# Altium schematic symbol library supercap.SCHLIB: 895 symbols (part 2 of 5)
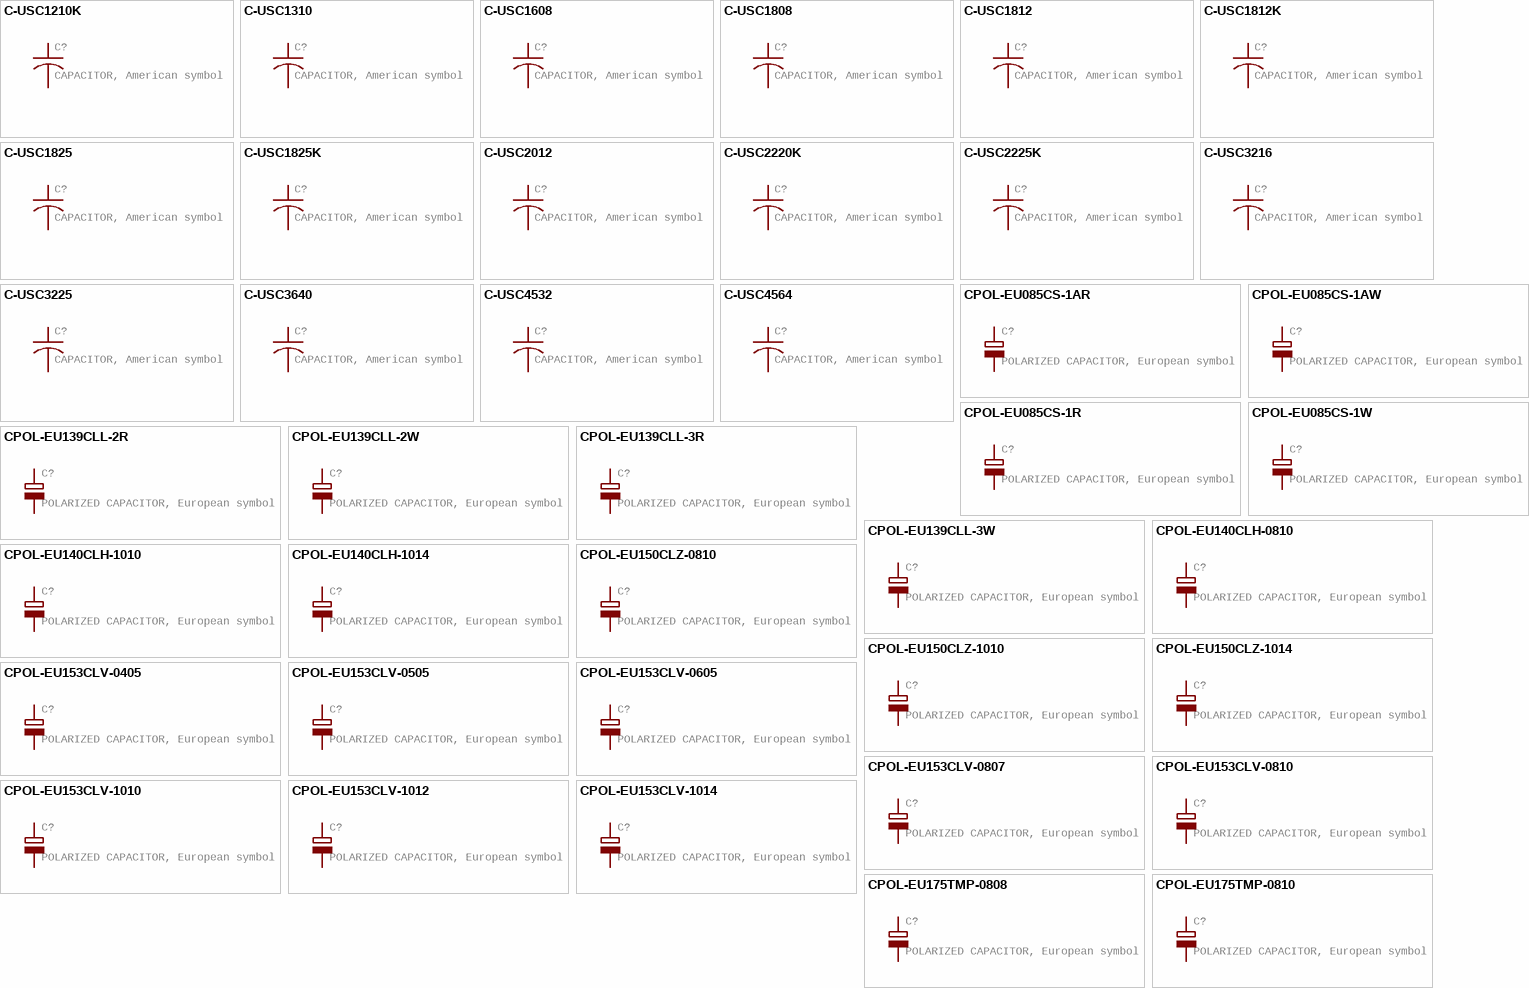
[diagram p23: symbols C-USC1210K to CPOL-EU175TMP-0810]

## CPOL-EU153CLV-0605
designator C?, comment POLARIZED CAPACITOR, European symbol
GateName_1: G$1; SymbolName_1: CPOL; DeviceName: 153CLV-0605; DeviceSetName: CPOL-EU; POPULARITY: 5; LibraryName: supercap; Package: 153CLV-0605; SPICEPREFIX: C
footprint 153CLV-0605
pins: +, -

## CPOL-EU153CLV-0807
designator C?, comment POLARIZED CAPACITOR, European symbol
GateName_1: G$1; SymbolName_1: CPOL; DeviceName: 153CLV-0807; DeviceSetName: CPOL-EU; POPULARITY: 0; LibraryName: supercap; Package: 153CLV-0807; SPICEPREFIX: C
footprint 153CLV-0807
pins: +, -

## CPOL-EU153CLV-0810
designator C?, comment POLARIZED CAPACITOR, European symbol
GateName_1: G$1; SymbolName_1: CPOL; DeviceName: 153CLV-0810; DeviceSetName: CPOL-EU; POPULARITY: 4; LibraryName: supercap; Package: 153CLV-0810; SPICEPREFIX: C
footprint 153CLV-0810
pins: +, -

## CPOL-EU153CLV-1010
designator C?, comment POLARIZED CAPACITOR, European symbol
GateName_1: G$1; SymbolName_1: CPOL; DeviceName: 153CLV-1010; DeviceSetName: CPOL-EU; POPULARITY: 0; LibraryName: supercap; Package: 153CLV-1010; SPICEPREFIX: C
footprint 153CLV-1010
pins: +, -

## CPOL-EU153CLV-1012
designator C?, comment POLARIZED CAPACITOR, European symbol
GateName_1: G$1; SymbolName_1: CPOL; DeviceName: 153CLV-1012; DeviceSetName: CPOL-EU; POPULARITY: 0; LibraryName: supercap; Package: 153CLV-1012; SPICEPREFIX: C
footprint 153CLV-1012
pins: +, -

## CPOL-EU153CLV-1014
designator C?, comment POLARIZED CAPACITOR, European symbol
GateName_1: G$1; SymbolName_1: CPOL; DeviceName: 153CLV-1014; DeviceSetName: CPOL-EU; POPULARITY: 0; LibraryName: supercap; Package: 153CLV-1014; SPICEPREFIX: C
footprint 153CLV-1014
pins: +, -

## CPOL-EU175TMP-0808
designator C?, comment POLARIZED CAPACITOR, European symbol
GateName_1: G$1; SymbolName_1: CPOL; DeviceName: 175TMP-0808; DeviceSetName: CPOL-EU; POPULARITY: 0; LibraryName: supercap; Package: 175TMP-0808; SPICEPREFIX: C
footprint 175TMP-0808
pins: +, -

## CPOL-EU175TMP-0810
designator C?, comment POLARIZED CAPACITOR, European symbol
GateName_1: G$1; SymbolName_1: CPOL; DeviceName: 175TMP-0810; DeviceSetName: CPOL-EU; POPULARITY: 0; LibraryName: supercap; Package: 175TMP-0810; SPICEPREFIX: C
footprint 175TMP-0810
pins: +, -

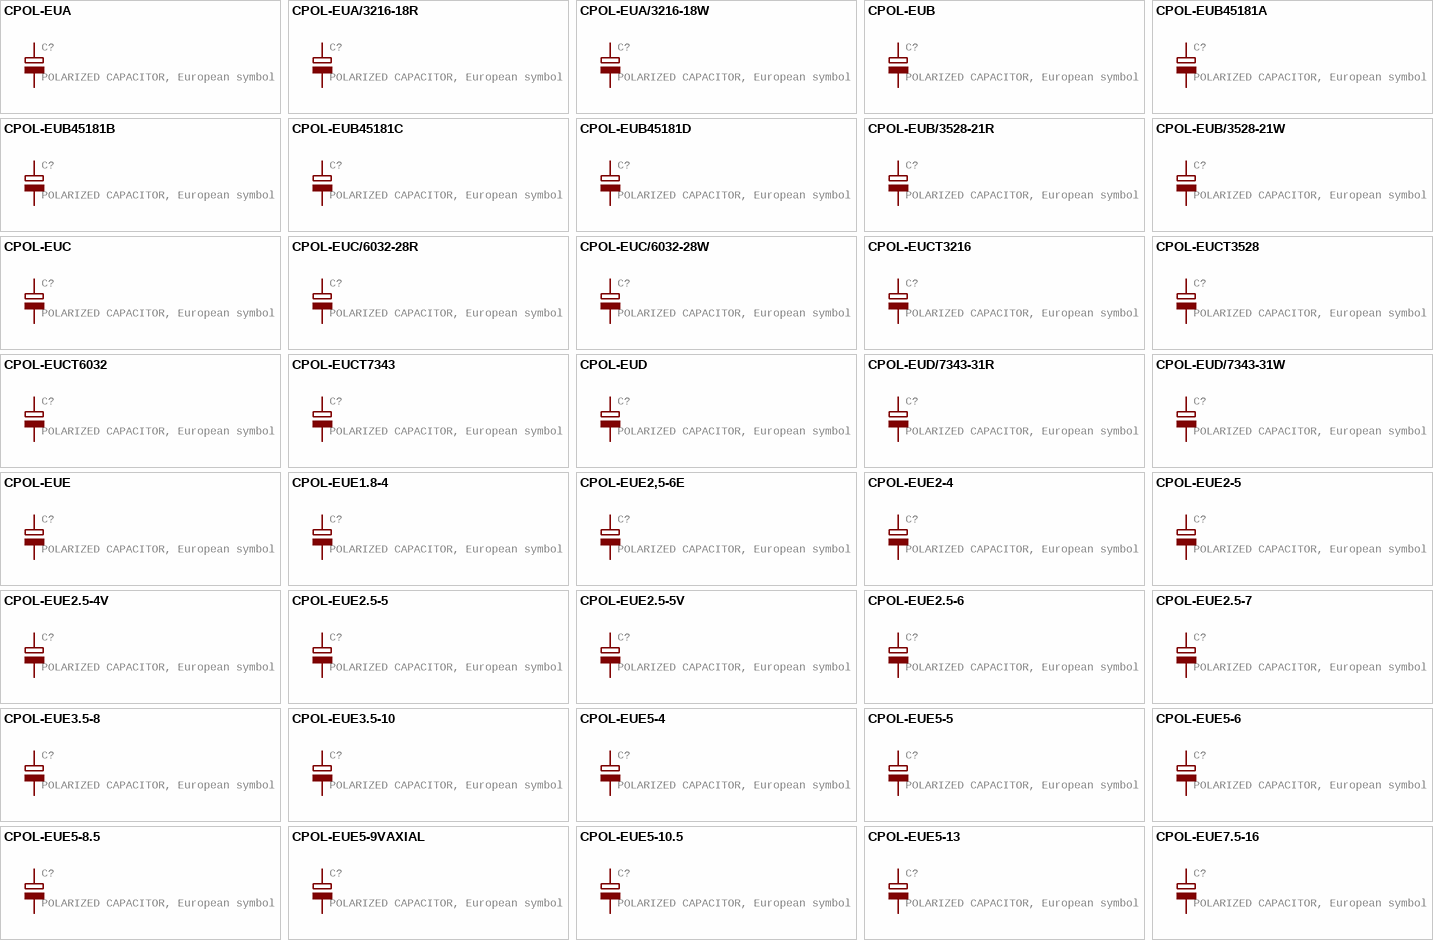
[diagram p5: symbols CPOL-EUA to CPOL-EUE7.5-16]

## CPOL-EUA
designator C?, comment POLARIZED CAPACITOR, European symbol
GateName_1: G$1; SymbolName_1: CPOL; DeviceName: A; DeviceSetName: CPOL-EU; POPULARITY: 0; LibraryName: supercap; Package: PANASONIC_A; SPICEPREFIX: C
footprint PANASONIC_A
pins: +, -

## CPOL-EUA/3216-18R
designator C?, comment POLARIZED CAPACITOR, European symbol
GateName_1: G$1; SymbolName_1: CPOL; DeviceName: A/3216-18R; DeviceSetName: CPOL-EU; POPULARITY: 1; LibraryName: supercap; Package: A/3216-18R; SPICEPREFIX: C
footprint A/3216-18R
pins: +, -

## CPOL-EUA/3216-18W
designator C?, comment POLARIZED CAPACITOR, European symbol
GateName_1: G$1; SymbolName_1: CPOL; DeviceName: A/3216-18W; DeviceSetName: CPOL-EU; POPULARITY: 0; LibraryName: supercap; Package: A/3216-18W; SPICEPREFIX: C
footprint A/3216-18W
pins: +, -

## CPOL-EUB
designator C?, comment POLARIZED CAPACITOR, European symbol
GateName_1: G$1; SymbolName_1: CPOL; DeviceName: B; DeviceSetName: CPOL-EU; POPULARITY: 4; LibraryName: supercap; Package: PANASONIC_B; SPICEPREFIX: C
footprint PANASONIC_B
pins: +, -

## CPOL-EUB45181A
designator C?, comment POLARIZED CAPACITOR, European symbol
GateName_1: G$1; SymbolName_1: CPOL; DeviceName: B45181A; DeviceSetName: CPOL-EU; POPULARITY: 9; LibraryName: supercap; Package: B45181A; SPICEPREFIX: C
footprint B45181A
pins: +, -

## CPOL-EUB45181B
designator C?, comment POLARIZED CAPACITOR, European symbol
GateName_1: G$1; SymbolName_1: CPOL; DeviceName: B45181B; DeviceSetName: CPOL-EU; POPULARITY: 2; LibraryName: supercap; Package: B45181B; SPICEPREFIX: C
footprint B45181B
pins: +, -

## CPOL-EUB45181C
designator C?, comment POLARIZED CAPACITOR, European symbol
GateName_1: G$1; SymbolName_1: CPOL; DeviceName: B45181C; DeviceSetName: CPOL-EU; POPULARITY: 0; LibraryName: supercap; Package: B45181C; SPICEPREFIX: C
footprint B45181C
pins: +, -

## CPOL-EUB45181D
designator C?, comment POLARIZED CAPACITOR, European symbol
GateName_1: G$1; SymbolName_1: CPOL; DeviceName: B45181D; DeviceSetName: CPOL-EU; POPULARITY: 0; LibraryName: supercap; Package: B45181D; SPICEPREFIX: C
footprint B45181D
pins: +, -

## CPOL-EUB/3528-21R
designator C?, comment POLARIZED CAPACITOR, European symbol
GateName_1: G$1; SymbolName_1: CPOL; DeviceName: B/3528-21R; DeviceSetName: CPOL-EU; POPULARITY: 1; LibraryName: supercap; Package: B/3528-21R; SPICEPREFIX: C
footprint B/3528-21R
pins: +, -

## CPOL-EUB/3528-21W
designator C?, comment POLARIZED CAPACITOR, European symbol
GateName_1: G$1; SymbolName_1: CPOL; DeviceName: B/3528-21W; DeviceSetName: CPOL-EU; POPULARITY: 4; LibraryName: supercap; Package: B/3528-21W; SPICEPREFIX: C
footprint B/3528-21W
pins: +, -

## CPOL-EUC
designator C?, comment POLARIZED CAPACITOR, European symbol
GateName_1: G$1; SymbolName_1: CPOL; DeviceName: C; DeviceSetName: CPOL-EU; POPULARITY: 4; LibraryName: supercap; Package: PANASONIC_C; SPICEPREFIX: C
footprint PANASONIC_C
pins: +, -

## CPOL-EUC/6032-28R
designator C?, comment POLARIZED CAPACITOR, European symbol
GateName_1: G$1; SymbolName_1: CPOL; DeviceName: C/6032-28R; DeviceSetName: CPOL-EU; POPULARITY: 0; LibraryName: supercap; Package: C/6032-28R; SPICEPREFIX: C
footprint C/6032-28R
pins: +, -

## CPOL-EUC/6032-28W
designator C?, comment POLARIZED CAPACITOR, European symbol
GateName_1: G$1; SymbolName_1: CPOL; DeviceName: C/6032-28W; DeviceSetName: CPOL-EU; POPULARITY: 0; LibraryName: supercap; Package: C/6032-28W; SPICEPREFIX: C
footprint C/6032-28W
pins: +, -

## CPOL-EUCT3216
designator C?, comment POLARIZED CAPACITOR, European symbol
GateName_1: G$1; SymbolName_1: CPOL; DeviceName: CT3216; DeviceSetName: CPOL-EU; POPULARITY: 1; LibraryName: supercap; Package: CT3216; SPICEPREFIX: C
footprint CT3216
pins: +, -

## CPOL-EUCT3528
designator C?, comment POLARIZED CAPACITOR, European symbol
GateName_1: G$1; SymbolName_1: CPOL; DeviceName: CT3528; DeviceSetName: CPOL-EU; POPULARITY: 1; LibraryName: supercap; Package: CT3528; SPICEPREFIX: C
footprint CT3528
pins: +, -

## CPOL-EUCT6032
designator C?, comment POLARIZED CAPACITOR, European symbol
GateName_1: G$1; SymbolName_1: CPOL; DeviceName: CT6032; DeviceSetName: CPOL-EU; POPULARITY: 2; LibraryName: supercap; Package: CT6032; SPICEPREFIX: C
footprint CT6032
pins: +, -

## CPOL-EUCT7343
designator C?, comment POLARIZED CAPACITOR, European symbol
GateName_1: G$1; SymbolName_1: CPOL; DeviceName: CT7343; DeviceSetName: CPOL-EU; POPULARITY: 1; LibraryName: supercap; Package: CT7343; SPICEPREFIX: C
footprint CT7343
pins: +, -

## CPOL-EUD
designator C?, comment POLARIZED CAPACITOR, European symbol
GateName_1: G$1; SymbolName_1: CPOL; DeviceName: D; DeviceSetName: CPOL-EU; POPULARITY: 16; LibraryName: supercap; Package: PANASONIC_D; SPICEPREFIX: C
footprint PANASONIC_D
pins: +, -

## CPOL-EUD/7343-31R
designator C?, comment POLARIZED CAPACITOR, European symbol
GateName_1: G$1; SymbolName_1: CPOL; DeviceName: D/7343-31R; DeviceSetName: CPOL-EU; POPULARITY: 3; LibraryName: supercap; Package: D/7343-31R; SPICEPREFIX: C
footprint D/7343-31R
pins: +, -

## CPOL-EUD/7343-31W
designator C?, comment POLARIZED CAPACITOR, European symbol
GateName_1: G$1; SymbolName_1: CPOL; DeviceName: D/7343-31W; DeviceSetName: CPOL-EU; POPULARITY: 1; LibraryName: supercap; Package: D/7343-31W; SPICEPREFIX: C
footprint D/7343-31W
pins: +, -

## CPOL-EUE
designator C?, comment POLARIZED CAPACITOR, European symbol
GateName_1: G$1; SymbolName_1: CPOL; DeviceName: E; DeviceSetName: CPOL-EU; POPULARITY: 0; LibraryName: supercap; Package: PANASONIC_E; SPICEPREFIX: C
footprint PANASONIC_E
pins: +, -

## CPOL-EUE1.8-4
designator C?, comment POLARIZED CAPACITOR, European symbol
GateName_1: G$1; SymbolName_1: CPOL; DeviceName: E1.8-4; DeviceSetName: CPOL-EU; POPULARITY: 12; LibraryName: supercap; Package: E1,8-4; SPICEPREFIX: C
footprint E1,8-4
pins: +, -

## CPOL-EUE2,5-6E
designator C?, comment POLARIZED CAPACITOR, European symbol
GateName_1: G$1; SymbolName_1: CPOL; DeviceName: E2,5-6E; DeviceSetName: CPOL-EU; POPULARITY: 27; LibraryName: supercap; Package: E2,5-6E; SPICEPREFIX: C
footprint E2,5-6E
pins: +, -

## CPOL-EUE2-4
designator C?, comment POLARIZED CAPACITOR, European symbol
GateName_1: G$1; SymbolName_1: CPOL; DeviceName: E2-4; DeviceSetName: CPOL-EU; POPULARITY: 7; LibraryName: supercap; Package: E2-4; SPICEPREFIX: C
footprint E2-4
pins: +, -

## CPOL-EUE2-5
designator C?, comment POLARIZED CAPACITOR, European symbol
GateName_1: G$1; SymbolName_1: CPOL; DeviceName: E2-5; DeviceSetName: CPOL-EU; POPULARITY: 14; LibraryName: supercap; Package: E2-5; SPICEPREFIX: C
footprint E2-5
pins: +, -

## CPOL-EUE2.5-4V
designator C?, comment POLARIZED CAPACITOR, European symbol
GateName_1: G$1; SymbolName_1: CPOL; DeviceName: E2.5-4V; DeviceSetName: CPOL-EU; POPULARITY: 0; LibraryName: supercap; Package: E2,5RE; SPICEPREFIX: C
footprint E2,5RE
pins: +, -

## CPOL-EUE2.5-5
designator C?, comment POLARIZED CAPACITOR, European symbol
GateName_1: G$1; SymbolName_1: CPOL; DeviceName: E2.5-5; DeviceSetName: CPOL-EU; POPULARITY: 16; LibraryName: supercap; Package: E2,5-5; SPICEPREFIX: C
footprint E2,5-5
pins: +, -

## CPOL-EUE2.5-5V
designator C?, comment POLARIZED CAPACITOR, European symbol
GateName_1: G$1; SymbolName_1: CPOL; DeviceName: E2.5-5V; DeviceSetName: CPOL-EU; POPULARITY: 0; LibraryName: supercap; Package: E2,5-4R; SPICEPREFIX: C
footprint E2,5-4R
pins: +, -

## CPOL-EUE2.5-6
designator C?, comment POLARIZED CAPACITOR, European symbol
GateName_1: G$1; SymbolName_1: CPOL; DeviceName: E2.5-6; DeviceSetName: CPOL-EU; POPULARITY: 26; LibraryName: supercap; Package: E2,5-6; SPICEPREFIX: C
footprint E2,5-6
pins: +, -

## CPOL-EUE2.5-7
designator C?, comment POLARIZED CAPACITOR, European symbol
GateName_1: G$1; SymbolName_1: CPOL; DeviceName: E2.5-7; DeviceSetName: CPOL-EU; POPULARITY: 17; LibraryName: supercap; Package: E2,5-7; SPICEPREFIX: C
footprint E2,5-7
pins: +, -

## CPOL-EUE3.5-8
designator C?, comment POLARIZED CAPACITOR, European symbol
GateName_1: G$1; SymbolName_1: CPOL; DeviceName: E3.5-8; DeviceSetName: CPOL-EU; POPULARITY: 13; LibraryName: supercap; Package: E3,5-8; SPICEPREFIX: C
footprint E3,5-8
pins: +, -

## CPOL-EUE3.5-10
designator C?, comment POLARIZED CAPACITOR, European symbol
GateName_1: G$1; SymbolName_1: CPOL; DeviceName: E3.5-10; DeviceSetName: CPOL-EU; POPULARITY: 5; LibraryName: supercap; Package: E3,5-10; SPICEPREFIX: C
footprint E3,5-10
pins: +, -

## CPOL-EUE5-4
designator C?, comment POLARIZED CAPACITOR, European symbol
GateName_1: G$1; SymbolName_1: CPOL; DeviceName: E5-4; DeviceSetName: CPOL-EU; POPULARITY: 0; LibraryName: supercap; Package: E5-4; SPICEPREFIX: C
footprint E5-4
pins: +, -

## CPOL-EUE5-5
designator C?, comment POLARIZED CAPACITOR, European symbol
GateName_1: G$1; SymbolName_1: CPOL; DeviceName: E5-5; DeviceSetName: CPOL-EU; POPULARITY: 6; LibraryName: supercap; Package: E5-5; SPICEPREFIX: C
footprint E5-5
pins: +, -

## CPOL-EUE5-6
designator C?, comment POLARIZED CAPACITOR, European symbol
GateName_1: G$1; SymbolName_1: CPOL; DeviceName: E5-6; DeviceSetName: CPOL-EU; POPULARITY: 2; LibraryName: supercap; Package: E5-6; SPICEPREFIX: C
footprint E5-6
pins: +, -

## CPOL-EUE5-8.5
designator C?, comment POLARIZED CAPACITOR, European symbol
GateName_1: G$1; SymbolName_1: CPOL; DeviceName: E5-8.5; DeviceSetName: CPOL-EU; POPULARITY: 0; LibraryName: supercap; Package: E5-8,5; SPICEPREFIX: C
footprint E5-8,5
pins: +, -

## CPOL-EUE5-9VAXIAL
designator C?, comment POLARIZED CAPACITOR, European symbol
GateName_1: G$1; SymbolName_1: CPOL; DeviceName: E5-9VAXIAL; DeviceSetName: CPOL-EU; POPULARITY: 0; LibraryName: supercap; Package: E5R; SPICEPREFIX: C
footprint E5R
pins: +, -

## CPOL-EUE5-10.5
designator C?, comment POLARIZED CAPACITOR, European symbol
GateName_1: G$1; SymbolName_1: CPOL; DeviceName: E5-10.5; DeviceSetName: CPOL-EU; POPULARITY: 23; LibraryName: supercap; Package: E5-10,5; SPICEPREFIX: C
footprint E5-10,5
pins: +, -

## CPOL-EUE5-13
designator C?, comment POLARIZED CAPACITOR, European symbol
GateName_1: G$1; SymbolName_1: CPOL; DeviceName: E5-13; DeviceSetName: CPOL-EU; POPULARITY: 0; LibraryName: supercap; Package: E5-13; SPICEPREFIX: C
footprint E5-13
pins: +, -

## CPOL-EUE7.5-16
designator C?, comment POLARIZED CAPACITOR, European symbol
GateName_1: G$1; SymbolName_1: CPOL; DeviceName: E7.5-16; DeviceSetName: CPOL-EU; POPULARITY: 4; LibraryName: supercap; Package: E7,5-16; SPICEPREFIX: C
footprint E7,5-16
pins: +, -

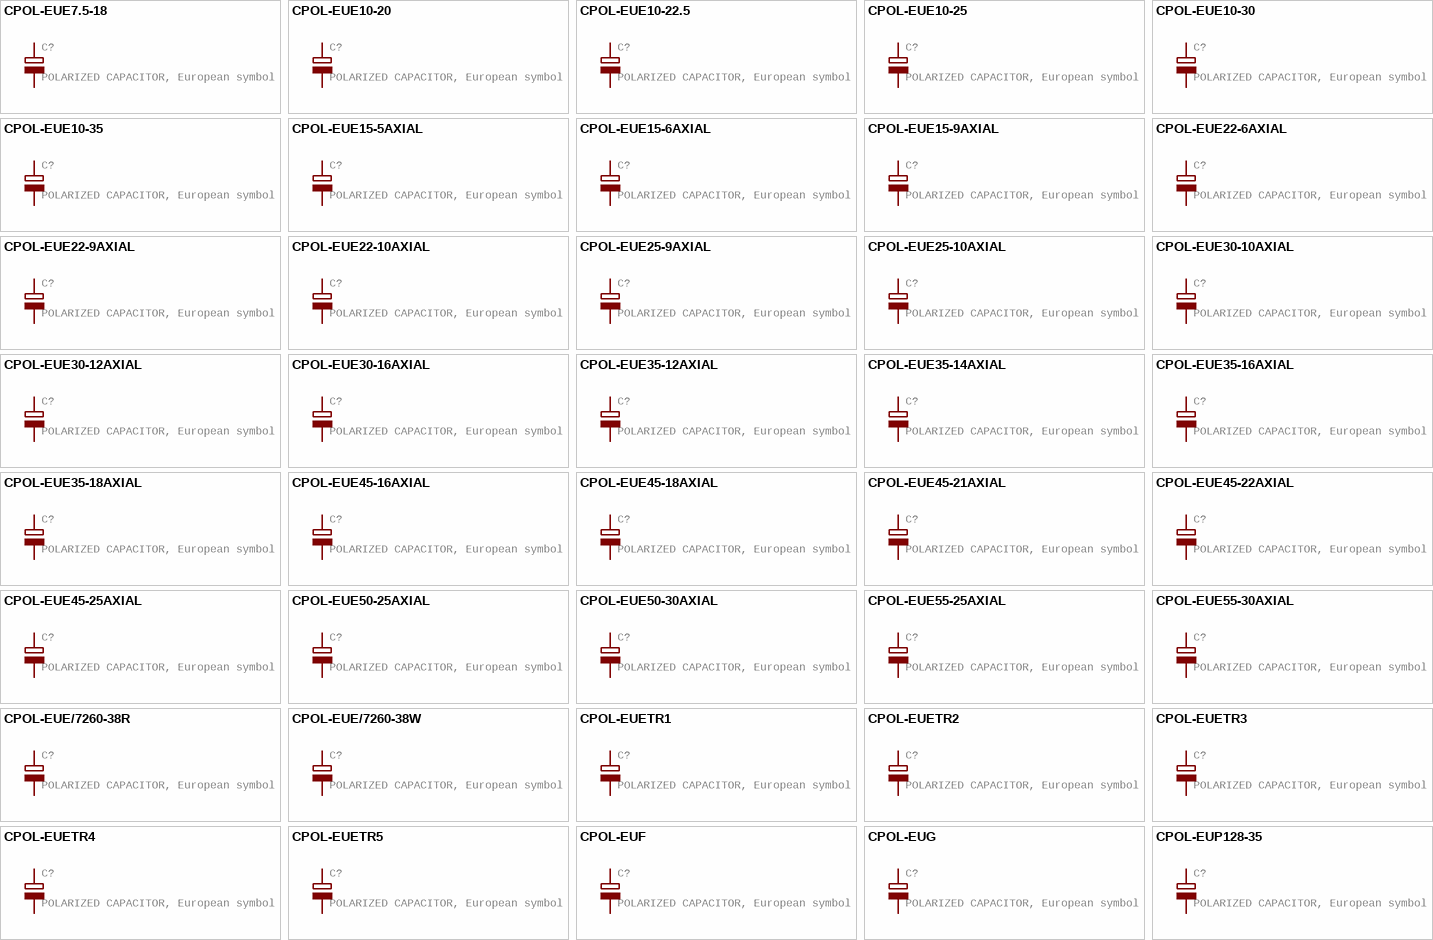
[diagram p6: symbols CPOL-EUE7.5-18 to CPOL-EUP128-35]

## CPOL-EUE7.5-18
designator C?, comment POLARIZED CAPACITOR, European symbol
GateName_1: G$1; SymbolName_1: CPOL; DeviceName: E7.5-18; DeviceSetName: CPOL-EU; POPULARITY: 6; LibraryName: supercap; Package: E7,5-18; SPICEPREFIX: C
footprint E7,5-18
pins: +, -

## CPOL-EUE10-20
designator C?, comment POLARIZED CAPACITOR, European symbol
GateName_1: G$1; SymbolName_1: CPOL; DeviceName: E10-20; DeviceSetName: CPOL-EU; POPULARITY: 0; LibraryName: supercap; Package: EB20D; SPICEPREFIX: C
footprint EB20D
pins: +, -

## CPOL-EUE10-22.5
designator C?, comment POLARIZED CAPACITOR, European symbol
GateName_1: G$1; SymbolName_1: CPOL; DeviceName: E10-22.5; DeviceSetName: CPOL-EU; POPULARITY: 1; LibraryName: supercap; Package: EB22,5D; SPICEPREFIX: C
footprint EB22,5D
pins: +, -

## CPOL-EUE10-25
designator C?, comment POLARIZED CAPACITOR, European symbol
GateName_1: G$1; SymbolName_1: CPOL; DeviceName: E10-25; DeviceSetName: CPOL-EU; POPULARITY: 0; LibraryName: supercap; Package: EB25D; SPICEPREFIX: C
footprint EB25D
pins: +, -

## CPOL-EUE10-30
designator C?, comment POLARIZED CAPACITOR, European symbol
GateName_1: G$1; SymbolName_1: CPOL; DeviceName: E10-30; DeviceSetName: CPOL-EU; POPULARITY: 0; LibraryName: supercap; Package: EB30D; SPICEPREFIX: C
footprint EB30D
pins: +, -

## CPOL-EUE10-35
designator C?, comment POLARIZED CAPACITOR, European symbol
GateName_1: G$1; SymbolName_1: CPOL; DeviceName: E10-35; DeviceSetName: CPOL-EU; POPULARITY: 0; LibraryName: supercap; Package: EB35D; SPICEPREFIX: C
footprint EB35D
pins: +, -

## CPOL-EUE15-5AXIAL
designator C?, comment POLARIZED CAPACITOR, European symbol
GateName_1: G$1; SymbolName_1: CPOL; DeviceName: E15-5AXIAL; DeviceSetName: CPOL-EU; POPULARITY: 0; LibraryName: supercap; Package: E15-5; SPICEPREFIX: C
footprint E15-5
pins: +, -

## CPOL-EUE15-6AXIAL
designator C?, comment POLARIZED CAPACITOR, European symbol
GateName_1: G$1; SymbolName_1: CPOL; DeviceName: E15-6AXIAL; DeviceSetName: CPOL-EU; POPULARITY: 0; LibraryName: supercap; Package: E15-6; SPICEPREFIX: C
footprint E15-6
pins: +, -

## CPOL-EUE15-9AXIAL
designator C?, comment POLARIZED CAPACITOR, European symbol
GateName_1: G$1; SymbolName_1: CPOL; DeviceName: E15-9AXIAL; DeviceSetName: CPOL-EU; POPULARITY: 0; LibraryName: supercap; Package: E15-9; SPICEPREFIX: C
footprint E15-9
pins: +, -

## CPOL-EUE22-6AXIAL
designator C?, comment POLARIZED CAPACITOR, European symbol
GateName_1: G$1; SymbolName_1: CPOL; DeviceName: E22-6AXIAL; DeviceSetName: CPOL-EU; POPULARITY: 0; LibraryName: supercap; Package: E22-6; SPICEPREFIX: C
footprint E22-6
pins: +, -

## CPOL-EUE22-9AXIAL
designator C?, comment POLARIZED CAPACITOR, European symbol
GateName_1: G$1; SymbolName_1: CPOL; DeviceName: E22-9AXIAL; DeviceSetName: CPOL-EU; POPULARITY: 0; LibraryName: supercap; Package: E22-9; SPICEPREFIX: C
footprint E22-9
pins: +, -

## CPOL-EUE22-10AXIAL
designator C?, comment POLARIZED CAPACITOR, European symbol
GateName_1: G$1; SymbolName_1: CPOL; DeviceName: E22-10AXIAL; DeviceSetName: CPOL-EU; POPULARITY: 0; LibraryName: supercap; Package: E22-10; SPICEPREFIX: C
footprint E22-10
pins: +, -

## CPOL-EUE25-9AXIAL
designator C?, comment POLARIZED CAPACITOR, European symbol
GateName_1: G$1; SymbolName_1: CPOL; DeviceName: E25-9AXIAL; DeviceSetName: CPOL-EU; POPULARITY: 0; LibraryName: supercap; Package: E25-9; SPICEPREFIX: C
footprint E25-9
pins: +, -

## CPOL-EUE25-10AXIAL
designator C?, comment POLARIZED CAPACITOR, European symbol
GateName_1: G$1; SymbolName_1: CPOL; DeviceName: E25-10AXIAL; DeviceSetName: CPOL-EU; POPULARITY: 0; LibraryName: supercap; Package: E25-10; SPICEPREFIX: C
footprint E25-10
pins: +, -

## CPOL-EUE30-10AXIAL
designator C?, comment POLARIZED CAPACITOR, European symbol
GateName_1: G$1; SymbolName_1: CPOL; DeviceName: E30-10AXIAL; DeviceSetName: CPOL-EU; POPULARITY: 0; LibraryName: supercap; Package: E30-10; SPICEPREFIX: C
footprint E30-10
pins: +, -

## CPOL-EUE30-12AXIAL
designator C?, comment POLARIZED CAPACITOR, European symbol
GateName_1: G$1; SymbolName_1: CPOL; DeviceName: E30-12AXIAL; DeviceSetName: CPOL-EU; POPULARITY: 0; LibraryName: supercap; Package: E30-12; SPICEPREFIX: C
footprint E30-12
pins: +, -

## CPOL-EUE30-16AXIAL
designator C?, comment POLARIZED CAPACITOR, European symbol
GateName_1: G$1; SymbolName_1: CPOL; DeviceName: E30-16AXIAL; DeviceSetName: CPOL-EU; POPULARITY: 0; LibraryName: supercap; Package: E30-16; SPICEPREFIX: C
footprint E30-16
pins: +, -

## CPOL-EUE35-12AXIAL
designator C?, comment POLARIZED CAPACITOR, European symbol
GateName_1: G$1; SymbolName_1: CPOL; DeviceName: E35-12AXIAL; DeviceSetName: CPOL-EU; POPULARITY: 0; LibraryName: supercap; Package: E35-12; SPICEPREFIX: C
footprint E35-12
pins: +, -

## CPOL-EUE35-14AXIAL
designator C?, comment POLARIZED CAPACITOR, European symbol
GateName_1: G$1; SymbolName_1: CPOL; DeviceName: E35-14AXIAL; DeviceSetName: CPOL-EU; POPULARITY: 0; LibraryName: supercap; Package: E35-14; SPICEPREFIX: C
footprint E35-14
pins: +, -

## CPOL-EUE35-16AXIAL
designator C?, comment POLARIZED CAPACITOR, European symbol
GateName_1: G$1; SymbolName_1: CPOL; DeviceName: E35-16AXIAL; DeviceSetName: CPOL-EU; POPULARITY: 0; LibraryName: supercap; Package: E35-16; SPICEPREFIX: C
footprint E35-16
pins: +, -

## CPOL-EUE35-18AXIAL
designator C?, comment POLARIZED CAPACITOR, European symbol
GateName_1: G$1; SymbolName_1: CPOL; DeviceName: E35-18AXIAL; DeviceSetName: CPOL-EU; POPULARITY: 0; LibraryName: supercap; Package: E35-18; SPICEPREFIX: C
footprint E35-18
pins: +, -

## CPOL-EUE45-16AXIAL
designator C?, comment POLARIZED CAPACITOR, European symbol
GateName_1: G$1; SymbolName_1: CPOL; DeviceName: E45-16AXIAL; DeviceSetName: CPOL-EU; POPULARITY: 0; LibraryName: supercap; Package: E45-16; SPICEPREFIX: C
footprint E45-16
pins: +, -

## CPOL-EUE45-18AXIAL
designator C?, comment POLARIZED CAPACITOR, European symbol
GateName_1: G$1; SymbolName_1: CPOL; DeviceName: E45-18AXIAL; DeviceSetName: CPOL-EU; POPULARITY: 0; LibraryName: supercap; Package: E45-18; SPICEPREFIX: C
footprint E45-18
pins: +, -

## CPOL-EUE45-21AXIAL
designator C?, comment POLARIZED CAPACITOR, European symbol
GateName_1: G$1; SymbolName_1: CPOL; DeviceName: E45-21AXIAL; DeviceSetName: CPOL-EU; POPULARITY: 0; LibraryName: supercap; Package: E45-21; SPICEPREFIX: C
footprint E45-21
pins: +, -

## CPOL-EUE45-22AXIAL
designator C?, comment POLARIZED CAPACITOR, European symbol
GateName_1: G$1; SymbolName_1: CPOL; DeviceName: E45-22AXIAL; DeviceSetName: CPOL-EU; POPULARITY: 0; LibraryName: supercap; Package: E45-22; SPICEPREFIX: C
footprint E45-22
pins: +, -

## CPOL-EUE45-25AXIAL
designator C?, comment POLARIZED CAPACITOR, European symbol
GateName_1: G$1; SymbolName_1: CPOL; DeviceName: E45-25AXIAL; DeviceSetName: CPOL-EU; POPULARITY: 0; LibraryName: supercap; Package: E45-25; SPICEPREFIX: C
footprint E45-25
pins: +, -

## CPOL-EUE50-25AXIAL
designator C?, comment POLARIZED CAPACITOR, European symbol
GateName_1: G$1; SymbolName_1: CPOL; DeviceName: E50-25AXIAL; DeviceSetName: CPOL-EU; POPULARITY: 0; LibraryName: supercap; Package: E50-25; SPICEPREFIX: C
footprint E50-25
pins: +, -

## CPOL-EUE50-30AXIAL
designator C?, comment POLARIZED CAPACITOR, European symbol
GateName_1: G$1; SymbolName_1: CPOL; DeviceName: E50-30AXIAL; DeviceSetName: CPOL-EU; POPULARITY: 0; LibraryName: supercap; Package: E50-30; SPICEPREFIX: C
footprint E50-30
pins: +, -

## CPOL-EUE55-25AXIAL
designator C?, comment POLARIZED CAPACITOR, European symbol
GateName_1: G$1; SymbolName_1: CPOL; DeviceName: E55-25AXIAL; DeviceSetName: CPOL-EU; POPULARITY: 0; LibraryName: supercap; Package: E55-25; SPICEPREFIX: C
footprint E55-25
pins: +, -

## CPOL-EUE55-30AXIAL
designator C?, comment POLARIZED CAPACITOR, European symbol
GateName_1: G$1; SymbolName_1: CPOL; DeviceName: E55-30AXIAL; DeviceSetName: CPOL-EU; POPULARITY: 0; LibraryName: supercap; Package: E55-30; SPICEPREFIX: C
footprint E55-30
pins: +, -

## CPOL-EUE/7260-38R
designator C?, comment POLARIZED CAPACITOR, European symbol
GateName_1: G$1; SymbolName_1: CPOL; DeviceName: E/7260-38R; DeviceSetName: CPOL-EU; POPULARITY: 0; LibraryName: supercap; Package: E/7260-38R; SPICEPREFIX: C
footprint E/7260-38R
pins: +, -

## CPOL-EUE/7260-38W
designator C?, comment POLARIZED CAPACITOR, European symbol
GateName_1: G$1; SymbolName_1: CPOL; DeviceName: E/7260-38W; DeviceSetName: CPOL-EU; POPULARITY: 0; LibraryName: supercap; Package: E/7260-38W; SPICEPREFIX: C
footprint E/7260-38W
pins: +, -

## CPOL-EUETR1
designator C?, comment POLARIZED CAPACITOR, European symbol
GateName_1: G$1; SymbolName_1: CPOL; DeviceName: ETR1; DeviceSetName: CPOL-EU; POPULARITY: 0; LibraryName: supercap; Package: ETR1; SPICEPREFIX: C
footprint ETR1
pins: +, -

## CPOL-EUETR2
designator C?, comment POLARIZED CAPACITOR, European symbol
GateName_1: G$1; SymbolName_1: CPOL; DeviceName: ETR2; DeviceSetName: CPOL-EU; POPULARITY: 0; LibraryName: supercap; Package: ETR2; SPICEPREFIX: C
footprint ETR2
pins: +, -

## CPOL-EUETR3
designator C?, comment POLARIZED CAPACITOR, European symbol
GateName_1: G$1; SymbolName_1: CPOL; DeviceName: ETR3; DeviceSetName: CPOL-EU; POPULARITY: 0; LibraryName: supercap; Package: ETR3; SPICEPREFIX: C
footprint ETR3
pins: +, -

## CPOL-EUETR4
designator C?, comment POLARIZED CAPACITOR, European symbol
GateName_1: G$1; SymbolName_1: CPOL; DeviceName: ETR4; DeviceSetName: CPOL-EU; POPULARITY: 0; LibraryName: supercap; Package: ETR4; SPICEPREFIX: C
footprint ETR4
pins: +, -

## CPOL-EUETR5
designator C?, comment POLARIZED CAPACITOR, European symbol
GateName_1: G$1; SymbolName_1: CPOL; DeviceName: ETR5; DeviceSetName: CPOL-EU; POPULARITY: 0; LibraryName: supercap; Package: ETR5; SPICEPREFIX: C
footprint ETR5
pins: +, -

## CPOL-EUF
designator C?, comment POLARIZED CAPACITOR, European symbol
GateName_1: G$1; SymbolName_1: CPOL; DeviceName: F; DeviceSetName: CPOL-EU; POPULARITY: 0; LibraryName: supercap; Package: PANASONIC_F; SPICEPREFIX: C
footprint PANASONIC_F
pins: +, -

## CPOL-EUG
designator C?, comment POLARIZED CAPACITOR, European symbol
GateName_1: G$1; SymbolName_1: CPOL; DeviceName: G; DeviceSetName: CPOL-EU; POPULARITY: 2; LibraryName: supercap; Package: PANASONIC_G; SPICEPREFIX: C
footprint PANASONIC_G
pins: +, -

## CPOL-EUP128-35
designator C?, comment POLARIZED CAPACITOR, European symbol
GateName_1: G$1; SymbolName_1: CPOL; DeviceName: P128-35; DeviceSetName: CPOL-EU; POPULARITY: 0; LibraryName: supercap; Package: P128-35; SPICEPREFIX: C
footprint P128-35
pins: +, -

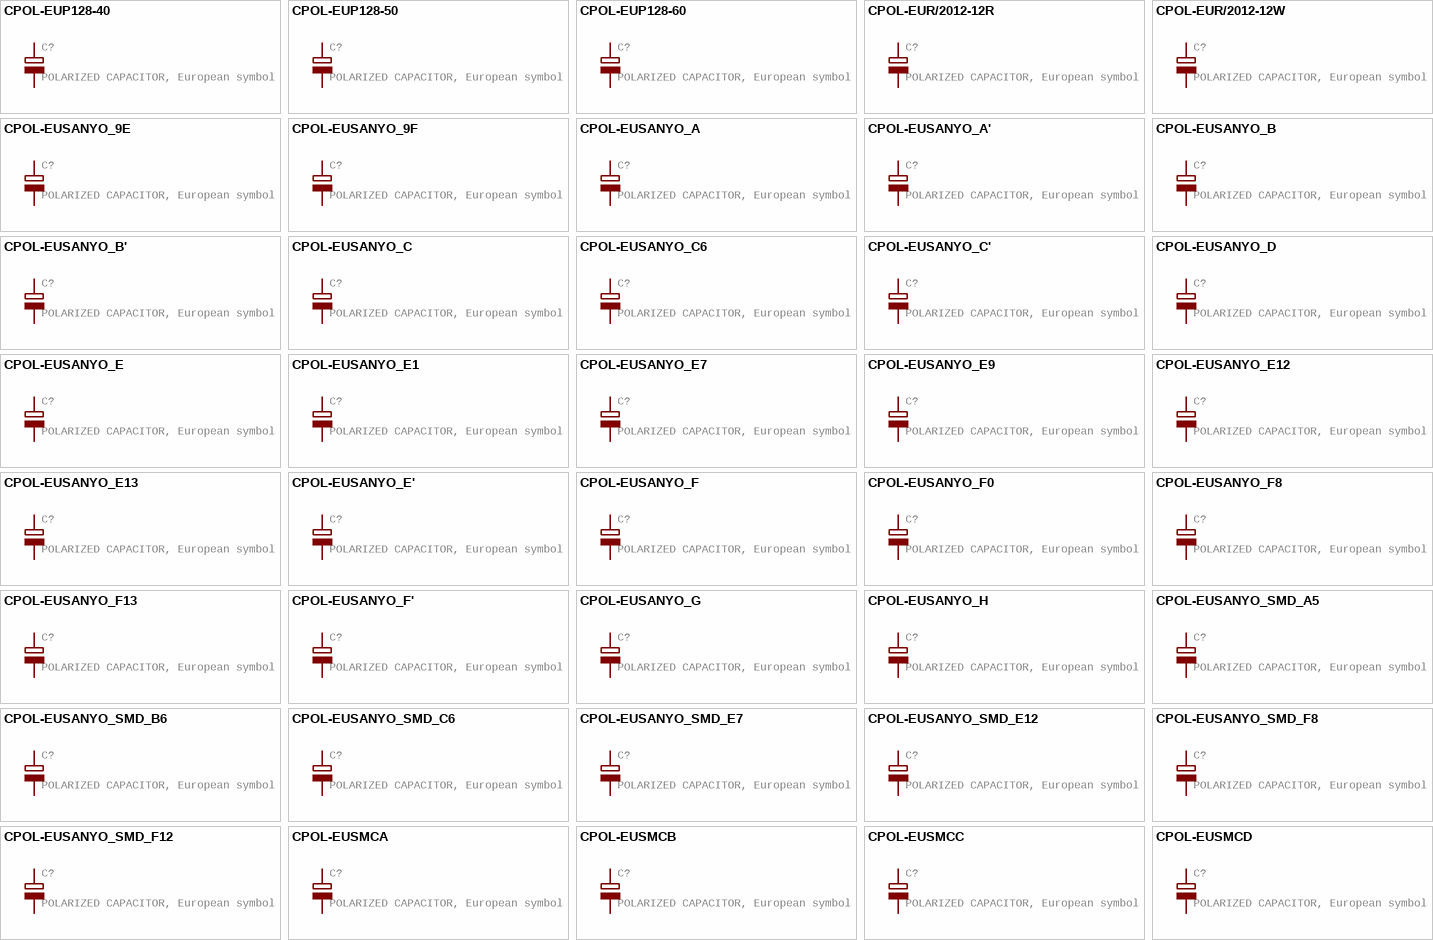
[diagram p7: symbols CPOL-EUP128-40 to CPOL-EUSMCD]

## CPOL-EUP128-40
designator C?, comment POLARIZED CAPACITOR, European symbol
GateName_1: G$1; SymbolName_1: CPOL; DeviceName: P128-40; DeviceSetName: CPOL-EU; POPULARITY: 0; LibraryName: supercap; Package: P128-40; SPICEPREFIX: C
footprint P128-40
pins: +, -

## CPOL-EUP128-50
designator C?, comment POLARIZED CAPACITOR, European symbol
GateName_1: G$1; SymbolName_1: CPOL; DeviceName: P128-50; DeviceSetName: CPOL-EU; POPULARITY: 0; LibraryName: supercap; Package: P128-50; SPICEPREFIX: C
footprint P128-50
pins: +, -

## CPOL-EUP128-60
designator C?, comment POLARIZED CAPACITOR, European symbol
GateName_1: G$1; SymbolName_1: CPOL; DeviceName: P128-60; DeviceSetName: CPOL-EU; POPULARITY: 0; LibraryName: supercap; Package: P128-60; SPICEPREFIX: C
footprint P128-60
pins: +, -

## CPOL-EUR/2012-12R
designator C?, comment POLARIZED CAPACITOR, European symbol
GateName_1: G$1; SymbolName_1: CPOL; DeviceName: R/2012-12R; DeviceSetName: CPOL-EU; POPULARITY: 0; LibraryName: supercap; Package: R/2012-12R; SPICEPREFIX: C
footprint R/2012-12R
pins: +, -

## CPOL-EUR/2012-12W
designator C?, comment POLARIZED CAPACITOR, European symbol
GateName_1: G$1; SymbolName_1: CPOL; DeviceName: R/2012-12W; DeviceSetName: CPOL-EU; POPULARITY: 0; LibraryName: supercap; Package: R/2012-12W; SPICEPREFIX: C
footprint R/2012-12W
pins: +, -

## CPOL-EUSANYO_9E
designator C?, comment POLARIZED CAPACITOR, European symbol
GateName_1: G$1; SymbolName_1: CPOL; DeviceName: SANYO_9E; DeviceSetName: CPOL-EU; POPULARITY: 0; LibraryName: supercap; Package: SANYO-OSCON_9E; SPICEPREFIX: C
footprint SANYO-OSCON_9E
pins: +, -

## CPOL-EUSANYO_9F
designator C?, comment POLARIZED CAPACITOR, European symbol
GateName_1: G$1; SymbolName_1: CPOL; DeviceName: SANYO_9F; DeviceSetName: CPOL-EU; POPULARITY: 0; LibraryName: supercap; Package: SANYO-OSCON_9F; SPICEPREFIX: C
footprint SANYO-OSCON_9F
pins: +, -

## CPOL-EUSANYO_A
designator C?, comment POLARIZED CAPACITOR, European symbol
GateName_1: G$1; SymbolName_1: CPOL; DeviceName: SANYO_A; DeviceSetName: CPOL-EU; POPULARITY: 0; LibraryName: supercap; Package: SANYO-OSCON_A; SPICEPREFIX: C
footprint SANYO-OSCON_A
pins: +, -

## CPOL-EUSANYO_A'
designator C?, comment POLARIZED CAPACITOR, European symbol
GateName_1: G$1; SymbolName_1: CPOL; DeviceName: SANYO_A'; DeviceSetName: CPOL-EU; POPULARITY: 0; LibraryName: supercap; Package: SANYO-OSCON_A'; SPICEPREFIX: C
footprint SANYO-OSCON_A'
pins: +, -

## CPOL-EUSANYO_B
designator C?, comment POLARIZED CAPACITOR, European symbol
GateName_1: G$1; SymbolName_1: CPOL; DeviceName: SANYO_B; DeviceSetName: CPOL-EU; POPULARITY: 0; LibraryName: supercap; Package: SANYO-OSCON_B; SPICEPREFIX: C
footprint SANYO-OSCON_B
pins: +, -

## CPOL-EUSANYO_B'
designator C?, comment POLARIZED CAPACITOR, European symbol
GateName_1: G$1; SymbolName_1: CPOL; DeviceName: SANYO_B'; DeviceSetName: CPOL-EU; POPULARITY: 0; LibraryName: supercap; Package: SANYO-OSCON_B'; SPICEPREFIX: C
footprint SANYO-OSCON_B'
pins: +, -

## CPOL-EUSANYO_C
designator C?, comment POLARIZED CAPACITOR, European symbol
GateName_1: G$1; SymbolName_1: CPOL; DeviceName: SANYO_C; DeviceSetName: CPOL-EU; POPULARITY: 0; LibraryName: supercap; Package: SANYO-OSCON_C; SPICEPREFIX: C
footprint SANYO-OSCON_C
pins: +, -

## CPOL-EUSANYO_C6
designator C?, comment POLARIZED CAPACITOR, European symbol
GateName_1: G$1; SymbolName_1: CPOL; DeviceName: SANYO_C6; DeviceSetName: CPOL-EU; POPULARITY: 0; LibraryName: supercap; Package: SANYO-OSCON_C6; SPICEPREFIX: C
footprint SANYO-OSCON_C6
pins: +, -

## CPOL-EUSANYO_C'
designator C?, comment POLARIZED CAPACITOR, European symbol
GateName_1: G$1; SymbolName_1: CPOL; DeviceName: SANYO_C'; DeviceSetName: CPOL-EU; POPULARITY: 0; LibraryName: supercap; Package: SANYO-OSCON_C'; SPICEPREFIX: C
footprint SANYO-OSCON_C'
pins: +, -

## CPOL-EUSANYO_D
designator C?, comment POLARIZED CAPACITOR, European symbol
GateName_1: G$1; SymbolName_1: CPOL; DeviceName: SANYO_D; DeviceSetName: CPOL-EU; POPULARITY: 0; LibraryName: supercap; Package: SANYO-OSCON_D; SPICEPREFIX: C
footprint SANYO-OSCON_D
pins: +, -

## CPOL-EUSANYO_E
designator C?, comment POLARIZED CAPACITOR, European symbol
GateName_1: G$1; SymbolName_1: CPOL; DeviceName: SANYO_E; DeviceSetName: CPOL-EU; POPULARITY: 0; LibraryName: supercap; Package: SANYO-OSCON_E; SPICEPREFIX: C
footprint SANYO-OSCON_E
pins: +, -

## CPOL-EUSANYO_E1
designator C?, comment POLARIZED CAPACITOR, European symbol
GateName_1: G$1; SymbolName_1: CPOL; DeviceName: SANYO_E1; DeviceSetName: CPOL-EU; POPULARITY: 0; LibraryName: supercap; Package: SANYO-OSCON_E1; SPICEPREFIX: C
footprint SANYO-OSCON_E1
pins: +, -

## CPOL-EUSANYO_E7
designator C?, comment POLARIZED CAPACITOR, European symbol
GateName_1: G$1; SymbolName_1: CPOL; DeviceName: SANYO_E7; DeviceSetName: CPOL-EU; POPULARITY: 0; LibraryName: supercap; Package: SANYO-OSCON_E7; SPICEPREFIX: C
footprint SANYO-OSCON_E7
pins: +, -

## CPOL-EUSANYO_E9
designator C?, comment POLARIZED CAPACITOR, European symbol
GateName_1: G$1; SymbolName_1: CPOL; DeviceName: SANYO_E9; DeviceSetName: CPOL-EU; POPULARITY: 0; LibraryName: supercap; Package: SANYO-OSCON_E9; SPICEPREFIX: C
footprint SANYO-OSCON_E9
pins: +, -

## CPOL-EUSANYO_E12
designator C?, comment POLARIZED CAPACITOR, European symbol
GateName_1: G$1; SymbolName_1: CPOL; DeviceName: SANYO_E12; DeviceSetName: CPOL-EU; POPULARITY: 0; LibraryName: supercap; Package: SANYO-OSCON_E12; SPICEPREFIX: C
footprint SANYO-OSCON_E12
pins: +, -

## CPOL-EUSANYO_E13
designator C?, comment POLARIZED CAPACITOR, European symbol
GateName_1: G$1; SymbolName_1: CPOL; DeviceName: SANYO_E13; DeviceSetName: CPOL-EU; POPULARITY: 0; LibraryName: supercap; Package: SANYO-OSCON_E13; SPICEPREFIX: C
footprint SANYO-OSCON_E13
pins: +, -

## CPOL-EUSANYO_E'
designator C?, comment POLARIZED CAPACITOR, European symbol
GateName_1: G$1; SymbolName_1: CPOL; DeviceName: SANYO_E'; DeviceSetName: CPOL-EU; POPULARITY: 0; LibraryName: supercap; Package: SANYO-OSCON_E'; SPICEPREFIX: C
footprint SANYO-OSCON_E'
pins: +, -

## CPOL-EUSANYO_F
designator C?, comment POLARIZED CAPACITOR, European symbol
GateName_1: G$1; SymbolName_1: CPOL; DeviceName: SANYO_F; DeviceSetName: CPOL-EU; POPULARITY: 0; LibraryName: supercap; Package: SANYO-OSCON_F; SPICEPREFIX: C
footprint SANYO-OSCON_F
pins: +, -

## CPOL-EUSANYO_F0
designator C?, comment POLARIZED CAPACITOR, European symbol
GateName_1: G$1; SymbolName_1: CPOL; DeviceName: SANYO_F0; DeviceSetName: CPOL-EU; POPULARITY: 0; LibraryName: supercap; Package: SANYO-OSCON_F0; SPICEPREFIX: C
footprint SANYO-OSCON_F0
pins: +, -

## CPOL-EUSANYO_F8
designator C?, comment POLARIZED CAPACITOR, European symbol
GateName_1: G$1; SymbolName_1: CPOL; DeviceName: SANYO_F8; DeviceSetName: CPOL-EU; POPULARITY: 0; LibraryName: supercap; Package: SANYO-OSCON_F8; SPICEPREFIX: C
footprint SANYO-OSCON_F8
pins: +, -

## CPOL-EUSANYO_F13
designator C?, comment POLARIZED CAPACITOR, European symbol
GateName_1: G$1; SymbolName_1: CPOL; DeviceName: SANYO_F13; DeviceSetName: CPOL-EU; POPULARITY: 0; LibraryName: supercap; Package: SANYO-OSCON_F13; SPICEPREFIX: C
footprint SANYO-OSCON_F13
pins: +, -

## CPOL-EUSANYO_F'
designator C?, comment POLARIZED CAPACITOR, European symbol
GateName_1: G$1; SymbolName_1: CPOL; DeviceName: SANYO_F'; DeviceSetName: CPOL-EU; POPULARITY: 0; LibraryName: supercap; Package: SANYO-OSCON_F'; SPICEPREFIX: C
footprint SANYO-OSCON_F'
pins: +, -

## CPOL-EUSANYO_G
designator C?, comment POLARIZED CAPACITOR, European symbol
GateName_1: G$1; SymbolName_1: CPOL; DeviceName: SANYO_G; DeviceSetName: CPOL-EU; POPULARITY: 0; LibraryName: supercap; Package: SANYO-OSCON_G; SPICEPREFIX: C
footprint SANYO-OSCON_G
pins: +, -

## CPOL-EUSANYO_H
designator C?, comment POLARIZED CAPACITOR, European symbol
GateName_1: G$1; SymbolName_1: CPOL; DeviceName: SANYO_H; DeviceSetName: CPOL-EU; POPULARITY: 0; LibraryName: supercap; Package: SANYO-OSCON_H; SPICEPREFIX: C
footprint SANYO-OSCON_H
pins: +, -

## CPOL-EUSANYO_SMD_A5
designator C?, comment POLARIZED CAPACITOR, European symbol
GateName_1: G$1; SymbolName_1: CPOL; DeviceName: SANYO_SMD_A5; DeviceSetName: CPOL-EU; POPULARITY: 1; LibraryName: supercap; Package: SANYO-OSCON_SMD_A5; SPICEPREFIX: C
footprint SANYO-OSCON_SMD_A5
pins: +, -

## CPOL-EUSANYO_SMD_B6
designator C?, comment POLARIZED CAPACITOR, European symbol
GateName_1: G$1; SymbolName_1: CPOL; DeviceName: SANYO_SMD_B6; DeviceSetName: CPOL-EU; POPULARITY: 2; LibraryName: supercap; Package: SANYO-OSCON_SMD_B6; SPICEPREFIX: C
footprint SANYO-OSCON_SMD_B6
pins: +, -

## CPOL-EUSANYO_SMD_C6
designator C?, comment POLARIZED CAPACITOR, European symbol
GateName_1: G$1; SymbolName_1: CPOL; DeviceName: SANYO_SMD_C6; DeviceSetName: CPOL-EU; POPULARITY: 0; LibraryName: supercap; Package: SANYO-OSCON_SMD_C6; SPICEPREFIX: C
footprint SANYO-OSCON_SMD_C6
pins: +, -

## CPOL-EUSANYO_SMD_E7
designator C?, comment POLARIZED CAPACITOR, European symbol
GateName_1: G$1; SymbolName_1: CPOL; DeviceName: SANYO_SMD_E7; DeviceSetName: CPOL-EU; POPULARITY: 1; LibraryName: supercap; Package: SANYO-OSCON_SMD_E7; SPICEPREFIX: C
footprint SANYO-OSCON_SMD_E7
pins: +, -

## CPOL-EUSANYO_SMD_E12
designator C?, comment POLARIZED CAPACITOR, European symbol
GateName_1: G$1; SymbolName_1: CPOL; DeviceName: SANYO_SMD_E12; DeviceSetName: CPOL-EU; POPULARITY: 0; LibraryName: supercap; Package: SANYO-OSCON_SMD_E12; SPICEPREFIX: C
footprint SANYO-OSCON_SMD_E12
pins: +, -

## CPOL-EUSANYO_SMD_F8
designator C?, comment POLARIZED CAPACITOR, European symbol
GateName_1: G$1; SymbolName_1: CPOL; DeviceName: SANYO_SMD_F8; DeviceSetName: CPOL-EU; POPULARITY: 0; LibraryName: supercap; Package: SANYO-OSCON_SMD_F8; SPICEPREFIX: C
footprint SANYO-OSCON_SMD_F8
pins: +, -

## CPOL-EUSANYO_SMD_F12
designator C?, comment POLARIZED CAPACITOR, European symbol
GateName_1: G$1; SymbolName_1: CPOL; DeviceName: SANYO_SMD_F12; DeviceSetName: CPOL-EU; POPULARITY: 0; LibraryName: supercap; Package: SANYO-OSCON_SMD_F12; SPICEPREFIX: C
footprint SANYO-OSCON_SMD_F12
pins: +, -

## CPOL-EUSMCA
designator C?, comment POLARIZED CAPACITOR, European symbol
GateName_1: G$1; SymbolName_1: CPOL; DeviceName: SMCA; DeviceSetName: CPOL-EU; POPULARITY: 4; LibraryName: supercap; Package: SMC_A; SPICEPREFIX: C
footprint SMC_A
pins: +, -

## CPOL-EUSMCB
designator C?, comment POLARIZED CAPACITOR, European symbol
GateName_1: G$1; SymbolName_1: CPOL; DeviceName: SMCB; DeviceSetName: CPOL-EU; POPULARITY: 25; LibraryName: supercap; Package: SMC_B; SPICEPREFIX: C
footprint SMC_B
pins: +, -

## CPOL-EUSMCC
designator C?, comment POLARIZED CAPACITOR, European symbol
GateName_1: G$1; SymbolName_1: CPOL; DeviceName: SMCC; DeviceSetName: CPOL-EU; POPULARITY: 4; LibraryName: supercap; Package: SMC_C; SPICEPREFIX: C
footprint SMC_C
pins: +, -

## CPOL-EUSMCD
designator C?, comment POLARIZED CAPACITOR, European symbol
GateName_1: G$1; SymbolName_1: CPOL; DeviceName: SMCD; DeviceSetName: CPOL-EU; POPULARITY: 0; LibraryName: supercap; Package: SMC_D; SPICEPREFIX: C
footprint SMC_D
pins: +, -

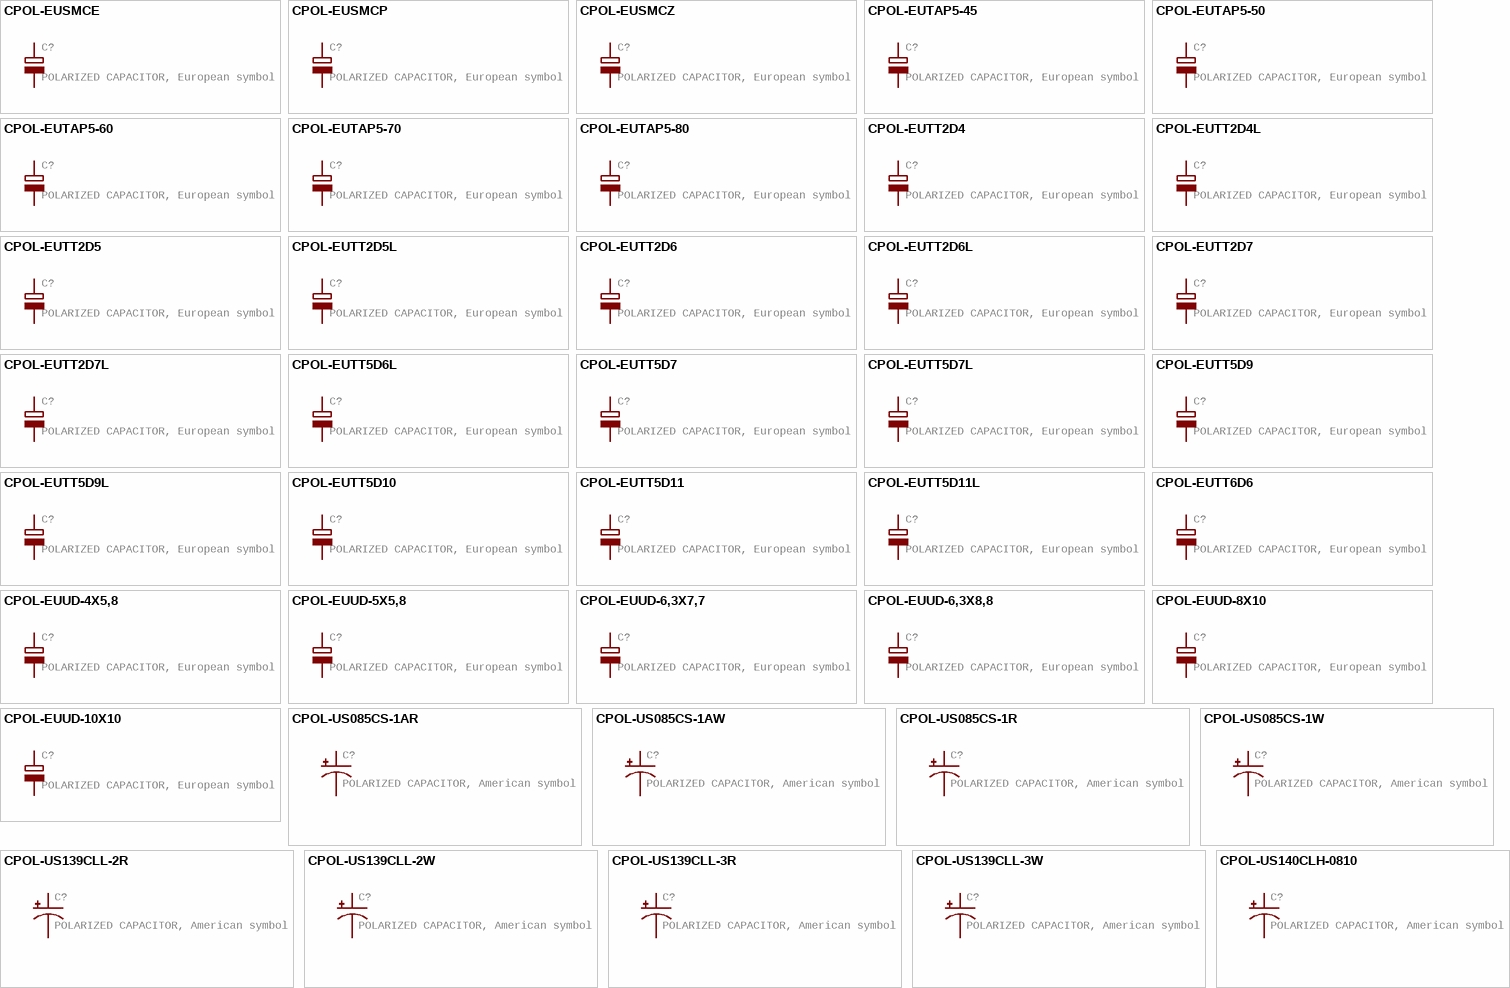
[diagram p8: symbols CPOL-EUSMCE to CPOL-US140CLH-0810]

## CPOL-EUSMCE
designator C?, comment POLARIZED CAPACITOR, European symbol
GateName_1: G$1; SymbolName_1: CPOL; DeviceName: SMCE; DeviceSetName: CPOL-EU; POPULARITY: 1; LibraryName: supercap; Package: SMC_E; SPICEPREFIX: C
footprint SMC_E
pins: +, -

## CPOL-EUSMCP
designator C?, comment POLARIZED CAPACITOR, European symbol
GateName_1: G$1; SymbolName_1: CPOL; DeviceName: SMCP; DeviceSetName: CPOL-EU; POPULARITY: 0; LibraryName: supercap; Package: SMC_P; SPICEPREFIX: C
footprint SMC_P
pins: +, -

## CPOL-EUSMCZ
designator C?, comment POLARIZED CAPACITOR, European symbol
GateName_1: G$1; SymbolName_1: CPOL; DeviceName: SMCZ; DeviceSetName: CPOL-EU; POPULARITY: 0; LibraryName: supercap; Package: SMC_Z; SPICEPREFIX: C
footprint SMC_Z
pins: +, -

## CPOL-EUTAP5-45
designator C?, comment POLARIZED CAPACITOR, European symbol
GateName_1: G$1; SymbolName_1: CPOL; DeviceName: TAP5-45; DeviceSetName: CPOL-EU; POPULARITY: 1; LibraryName: supercap; Package: TAP5-45; SPICEPREFIX: C
footprint TAP5-45
pins: +, -

## CPOL-EUTAP5-50
designator C?, comment POLARIZED CAPACITOR, European symbol
GateName_1: G$1; SymbolName_1: CPOL; DeviceName: TAP5-50; DeviceSetName: CPOL-EU; POPULARITY: 0; LibraryName: supercap; Package: TAP5-50; SPICEPREFIX: C
footprint TAP5-50
pins: +, -

## CPOL-EUTAP5-60
designator C?, comment POLARIZED CAPACITOR, European symbol
GateName_1: G$1; SymbolName_1: CPOL; DeviceName: TAP5-60; DeviceSetName: CPOL-EU; POPULARITY: 0; LibraryName: supercap; Package: TAP5-60; SPICEPREFIX: C
footprint TAP5-60
pins: +, -

## CPOL-EUTAP5-70
designator C?, comment POLARIZED CAPACITOR, European symbol
GateName_1: G$1; SymbolName_1: CPOL; DeviceName: TAP5-70; DeviceSetName: CPOL-EU; POPULARITY: 0; LibraryName: supercap; Package: TAP5-70; SPICEPREFIX: C
footprint TAP5-70
pins: +, -

## CPOL-EUTAP5-80
designator C?, comment POLARIZED CAPACITOR, European symbol
GateName_1: G$1; SymbolName_1: CPOL; DeviceName: TAP5-80; DeviceSetName: CPOL-EU; POPULARITY: 0; LibraryName: supercap; Package: TAP5-80; SPICEPREFIX: C
footprint TAP5-80
pins: +, -

## CPOL-EUTT2D4
designator C?, comment POLARIZED CAPACITOR, European symbol
GateName_1: G$1; SymbolName_1: CPOL; DeviceName: TT2D4; DeviceSetName: CPOL-EU; POPULARITY: 0; LibraryName: supercap; Package: TT2D4; SPICEPREFIX: C
footprint TT2D4
pins: +, -

## CPOL-EUTT2D4L
designator C?, comment POLARIZED CAPACITOR, European symbol
GateName_1: G$1; SymbolName_1: CPOL; DeviceName: TT2D4L; DeviceSetName: CPOL-EU; POPULARITY: 0; LibraryName: supercap; Package: TT2D4L; SPICEPREFIX: C
footprint TT2D4L
pins: +, -

## CPOL-EUTT2D5
designator C?, comment POLARIZED CAPACITOR, European symbol
GateName_1: G$1; SymbolName_1: CPOL; DeviceName: TT2D5; DeviceSetName: CPOL-EU; POPULARITY: 2; LibraryName: supercap; Package: TT2D5; SPICEPREFIX: C
footprint TT2D5
pins: +, -

## CPOL-EUTT2D5L
designator C?, comment POLARIZED CAPACITOR, European symbol
GateName_1: G$1; SymbolName_1: CPOL; DeviceName: TT2D5L; DeviceSetName: CPOL-EU; POPULARITY: 10; LibraryName: supercap; Package: TT2D5L; SPICEPREFIX: C
footprint TT2D5L
pins: +, -

## CPOL-EUTT2D6
designator C?, comment POLARIZED CAPACITOR, European symbol
GateName_1: G$1; SymbolName_1: CPOL; DeviceName: TT2D6; DeviceSetName: CPOL-EU; POPULARITY: 1; LibraryName: supercap; Package: TT2D6; SPICEPREFIX: C
footprint TT2D6
pins: +, -

## CPOL-EUTT2D6L
designator C?, comment POLARIZED CAPACITOR, European symbol
GateName_1: G$1; SymbolName_1: CPOL; DeviceName: TT2D6L; DeviceSetName: CPOL-EU; POPULARITY: 0; LibraryName: supercap; Package: TT2D6L; SPICEPREFIX: C
footprint TT2D6L
pins: +, -

## CPOL-EUTT2D7
designator C?, comment POLARIZED CAPACITOR, European symbol
GateName_1: G$1; SymbolName_1: CPOL; DeviceName: TT2D7; DeviceSetName: CPOL-EU; POPULARITY: 0; LibraryName: supercap; Package: TT2D7; SPICEPREFIX: C
footprint TT2D7
pins: +, -

## CPOL-EUTT2D7L
designator C?, comment POLARIZED CAPACITOR, European symbol
GateName_1: G$1; SymbolName_1: CPOL; DeviceName: TT2D7L; DeviceSetName: CPOL-EU; POPULARITY: 0; LibraryName: supercap; Package: TT2D7L; SPICEPREFIX: C
footprint TT2D7L
pins: +, -

## CPOL-EUTT5D6L
designator C?, comment POLARIZED CAPACITOR, European symbol
GateName_1: G$1; SymbolName_1: CPOL; DeviceName: TT5D6L; DeviceSetName: CPOL-EU; POPULARITY: 0; LibraryName: supercap; Package: TT5D6L; SPICEPREFIX: C
footprint TT5D6L
pins: +, -

## CPOL-EUTT5D7
designator C?, comment POLARIZED CAPACITOR, European symbol
GateName_1: G$1; SymbolName_1: CPOL; DeviceName: TT5D7; DeviceSetName: CPOL-EU; POPULARITY: 0; LibraryName: supercap; Package: TT5D7; SPICEPREFIX: C
footprint TT5D7
pins: +, -

## CPOL-EUTT5D7L
designator C?, comment POLARIZED CAPACITOR, European symbol
GateName_1: G$1; SymbolName_1: CPOL; DeviceName: TT5D7L; DeviceSetName: CPOL-EU; POPULARITY: 0; LibraryName: supercap; Package: TT5D7L; SPICEPREFIX: C
footprint TT5D7L
pins: +, -

## CPOL-EUTT5D9
designator C?, comment POLARIZED CAPACITOR, European symbol
GateName_1: G$1; SymbolName_1: CPOL; DeviceName: TT5D9; DeviceSetName: CPOL-EU; POPULARITY: 0; LibraryName: supercap; Package: TT5D9; SPICEPREFIX: C
footprint TT5D9
pins: +, -

## CPOL-EUTT5D9L
designator C?, comment POLARIZED CAPACITOR, European symbol
GateName_1: G$1; SymbolName_1: CPOL; DeviceName: TT5D9L; DeviceSetName: CPOL-EU; POPULARITY: 0; LibraryName: supercap; Package: TT5D9L; SPICEPREFIX: C
footprint TT5D9L
pins: +, -

## CPOL-EUTT5D10
designator C?, comment POLARIZED CAPACITOR, European symbol
GateName_1: G$1; SymbolName_1: CPOL; DeviceName: TT5D10; DeviceSetName: CPOL-EU; POPULARITY: 1; LibraryName: supercap; Package: TT5D10; SPICEPREFIX: C
footprint TT5D10
pins: +, -

## CPOL-EUTT5D11
designator C?, comment POLARIZED CAPACITOR, European symbol
GateName_1: G$1; SymbolName_1: CPOL; DeviceName: TT5D11; DeviceSetName: CPOL-EU; POPULARITY: 0; LibraryName: supercap; Package: TT5D11; SPICEPREFIX: C
footprint TT5D11
pins: +, -

## CPOL-EUTT5D11L
designator C?, comment POLARIZED CAPACITOR, European symbol
GateName_1: G$1; SymbolName_1: CPOL; DeviceName: TT5D11L; DeviceSetName: CPOL-EU; POPULARITY: 0; LibraryName: supercap; Package: TT5D11L; SPICEPREFIX: C
footprint TT5D11L
pins: +, -

## CPOL-EUTT6D6
designator C?, comment POLARIZED CAPACITOR, European symbol
GateName_1: G$1; SymbolName_1: CPOL; DeviceName: TT6D6; DeviceSetName: CPOL-EU; POPULARITY: 0; LibraryName: supercap; Package: TT5D6; SPICEPREFIX: C
footprint TT5D6
pins: +, -

## CPOL-EUUD-4X5,8
designator C?, comment POLARIZED CAPACITOR, European symbol
GateName_1: G$1; SymbolName_1: CPOL; DeviceName: UD-4X5,8; DeviceSetName: CPOL-EU; POPULARITY: 0; LibraryName: supercap; Package: UD-4X5,8_NICHICON; SPICEPREFIX: C
footprint UD-4X5,8_NICHICON
pins: +, -

## CPOL-EUUD-5X5,8
designator C?, comment POLARIZED CAPACITOR, European symbol
GateName_1: G$1; SymbolName_1: CPOL; DeviceName: UD-5X5,8; DeviceSetName: CPOL-EU; POPULARITY: 0; LibraryName: supercap; Package: UD-5X5,8_NICHICON; SPICEPREFIX: C
footprint UD-5X5,8_NICHICON
pins: +, -

## CPOL-EUUD-6,3X7,7
designator C?, comment POLARIZED CAPACITOR, European symbol
GateName_1: G$1; SymbolName_1: CPOL; DeviceName: UD-6,3X7,7; DeviceSetName: CPOL-EU; POPULARITY: 1; LibraryName: supercap; Package: UD-6,3X7,7_NICHICON; SPICEPREFIX: C
footprint UD-6,3X7,7_NICHICON
pins: +, -

## CPOL-EUUD-6,3X8,8
designator C?, comment POLARIZED CAPACITOR, European symbol
GateName_1: G$1; SymbolName_1: CPOL; DeviceName: UD-6,3X8,8; DeviceSetName: CPOL-EU; POPULARITY: 0; LibraryName: supercap; Package: UD-6,3X5,8_NICHICON; SPICEPREFIX: C
footprint UD-6,3X5,8_NICHICON
pins: +, -

## CPOL-EUUD-8X10
designator C?, comment POLARIZED CAPACITOR, European symbol
GateName_1: G$1; SymbolName_1: CPOL; DeviceName: UD-8X10; DeviceSetName: CPOL-EU; POPULARITY: 0; LibraryName: supercap; Package: UD-8X10_NICHICON; SPICEPREFIX: C
footprint UD-8X10_NICHICON
pins: +, -

## CPOL-EUUD-10X10
designator C?, comment POLARIZED CAPACITOR, European symbol
GateName_1: G$1; SymbolName_1: CPOL; DeviceName: UD-10X10; DeviceSetName: CPOL-EU; POPULARITY: 0; LibraryName: supercap; Package: UD-10X10_NICHICON; SPICEPREFIX: C
footprint UD-10X10_NICHICON
pins: +, -

## CPOL-US085CS-1AR
designator C?, comment POLARIZED CAPACITOR, American symbol
GateName_1: G$1; SymbolName_1: CPOL-US; DeviceName: 085CS-1AR; POPULARITY: 0; LibraryName: supercap; DeviceSetName: CPOL-US; Package: 085CS_1AR; SPICEPREFIX: C
footprint 085CS_1AR
pins: +, -

## CPOL-US085CS-1AW
designator C?, comment POLARIZED CAPACITOR, American symbol
GateName_1: G$1; SymbolName_1: CPOL-US; DeviceName: 085CS-1AW; POPULARITY: 0; LibraryName: supercap; DeviceSetName: CPOL-US; Package: 085CS_1AW; SPICEPREFIX: C
footprint 085CS_1AW
pins: +, -

## CPOL-US085CS-1R
designator C?, comment POLARIZED CAPACITOR, American symbol
GateName_1: G$1; SymbolName_1: CPOL-US; DeviceName: 085CS-1R; POPULARITY: 0; LibraryName: supercap; DeviceSetName: CPOL-US; Package: 085CS_1R; SPICEPREFIX: C
footprint 085CS_1R
pins: +, -

## CPOL-US085CS-1W
designator C?, comment POLARIZED CAPACITOR, American symbol
GateName_1: G$1; SymbolName_1: CPOL-US; DeviceName: 085CS-1W; POPULARITY: 0; LibraryName: supercap; DeviceSetName: CPOL-US; Package: 085CS_1W; SPICEPREFIX: C
footprint 085CS_1W
pins: +, -

## CPOL-US139CLL-2R
designator C?, comment POLARIZED CAPACITOR, American symbol
GateName_1: G$1; SymbolName_1: CPOL-US; DeviceName: 139CLL-2R; POPULARITY: 0; LibraryName: supercap; DeviceSetName: CPOL-US; Package: 139CLL-2R; SPICEPREFIX: C
footprint 139CLL-2R
pins: +, -

## CPOL-US139CLL-2W
designator C?, comment POLARIZED CAPACITOR, American symbol
GateName_1: G$1; SymbolName_1: CPOL-US; DeviceName: 139CLL-2W; POPULARITY: 0; LibraryName: supercap; DeviceSetName: CPOL-US; Package: 139CLL-2W; SPICEPREFIX: C
footprint 139CLL-2W
pins: +, -

## CPOL-US139CLL-3R
designator C?, comment POLARIZED CAPACITOR, American symbol
GateName_1: G$1; SymbolName_1: CPOL-US; DeviceName: 139CLL-3R; POPULARITY: 0; LibraryName: supercap; DeviceSetName: CPOL-US; Package: 139CLL-3R; SPICEPREFIX: C
footprint 139CLL-3R
pins: +, -

## CPOL-US139CLL-3W
designator C?, comment POLARIZED CAPACITOR, American symbol
GateName_1: G$1; SymbolName_1: CPOL-US; DeviceName: 139CLL-3W; POPULARITY: 0; LibraryName: supercap; DeviceSetName: CPOL-US; Package: 139CLL-3W; SPICEPREFIX: C
footprint 139CLL-3W
pins: +, -

## CPOL-US140CLH-0810
designator C?, comment POLARIZED CAPACITOR, American symbol
GateName_1: G$1; SymbolName_1: CPOL-US; DeviceName: 140CLH-0810; POPULARITY: 0; LibraryName: supercap; DeviceSetName: CPOL-US; Package: 140CLH-0810; SPICEPREFIX: C
footprint 140CLH-0810
pins: +, -

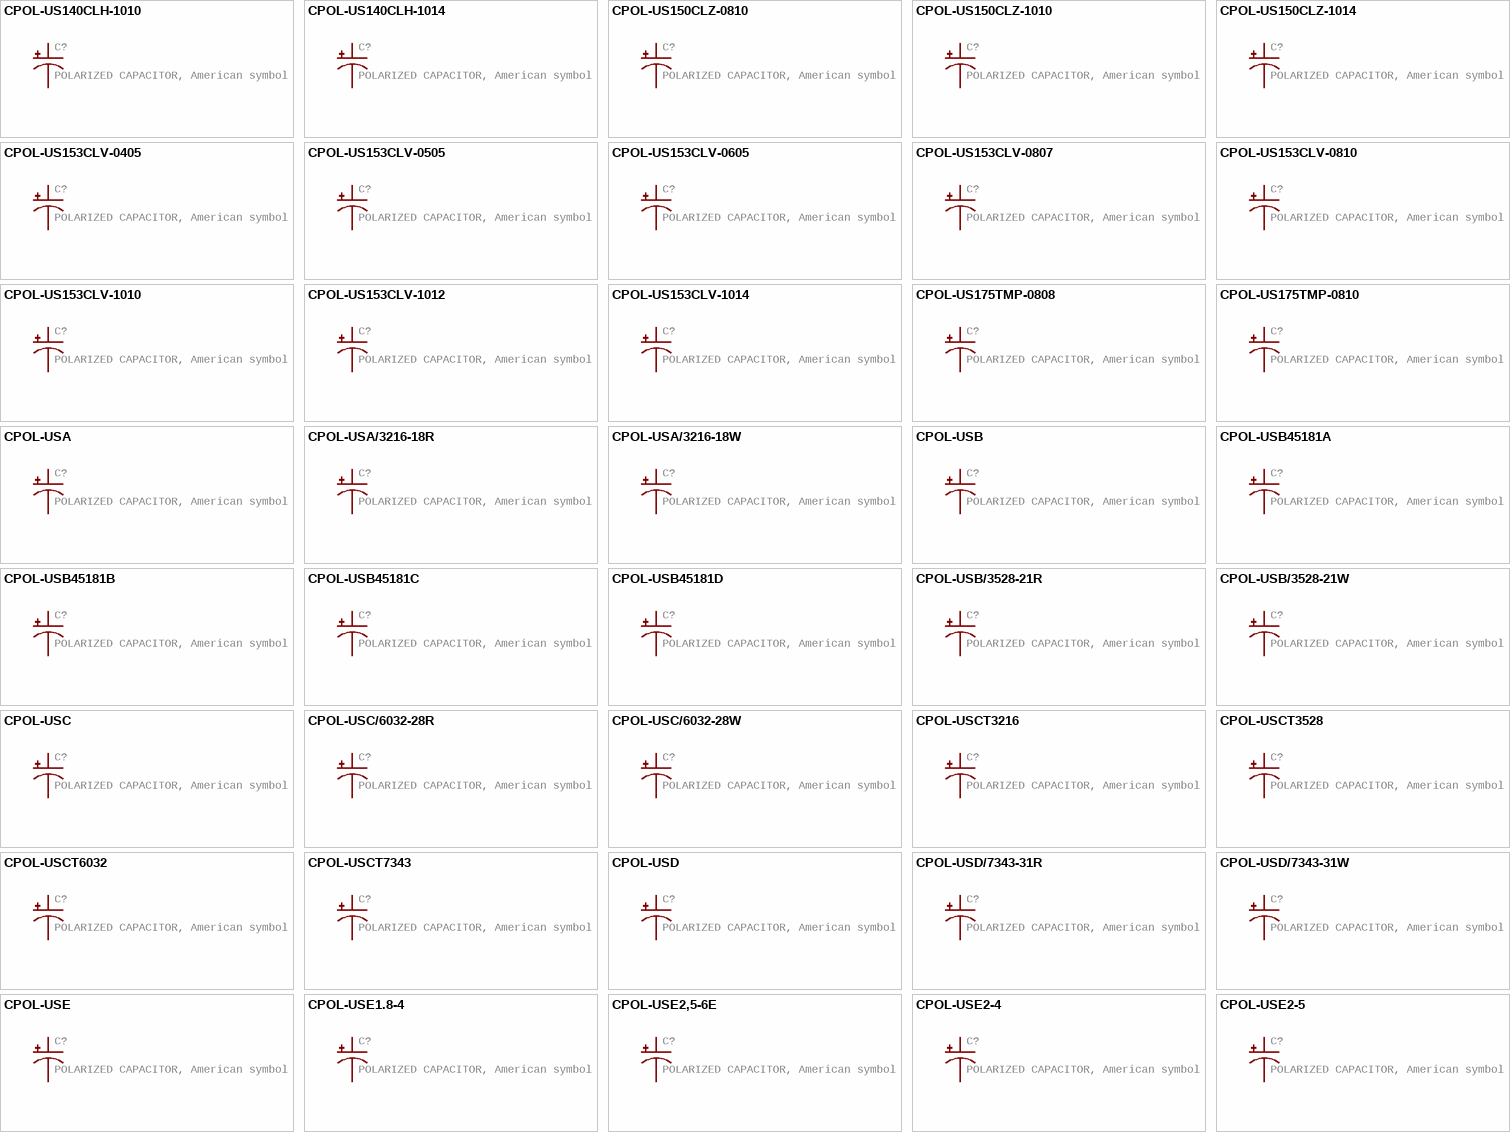
[diagram p9: symbols CPOL-US140CLH-1010 to CPOL-USE2-5]

## CPOL-US140CLH-1010
designator C?, comment POLARIZED CAPACITOR, American symbol
GateName_1: G$1; SymbolName_1: CPOL-US; DeviceName: 140CLH-1010; POPULARITY: 0; LibraryName: supercap; DeviceSetName: CPOL-US; Package: 140CLH-1010; SPICEPREFIX: C
footprint 140CLH-1010
pins: +, -

## CPOL-US140CLH-1014
designator C?, comment POLARIZED CAPACITOR, American symbol
GateName_1: G$1; SymbolName_1: CPOL-US; DeviceName: 140CLH-1014; POPULARITY: 0; LibraryName: supercap; DeviceSetName: CPOL-US; Package: 140CLH-1014; SPICEPREFIX: C
footprint 140CLH-1014
pins: +, -

## CPOL-US150CLZ-0810
designator C?, comment POLARIZED CAPACITOR, American symbol
GateName_1: G$1; SymbolName_1: CPOL-US; DeviceName: 150CLZ-0810; POPULARITY: 0; LibraryName: supercap; DeviceSetName: CPOL-US; Package: 150CLZ-0810; SPICEPREFIX: C
footprint 150CLZ-0810
pins: +, -

## CPOL-US150CLZ-1010
designator C?, comment POLARIZED CAPACITOR, American symbol
GateName_1: G$1; SymbolName_1: CPOL-US; DeviceName: 150CLZ-1010; POPULARITY: 1; LibraryName: supercap; DeviceSetName: CPOL-US; Package: 150CLZ-1010; SPICEPREFIX: C
footprint 150CLZ-1010
pins: +, -

## CPOL-US150CLZ-1014
designator C?, comment POLARIZED CAPACITOR, American symbol
GateName_1: G$1; SymbolName_1: CPOL-US; DeviceName: 150CLZ-1014; POPULARITY: 0; LibraryName: supercap; DeviceSetName: CPOL-US; Package: 150CLZ-1014; SPICEPREFIX: C
footprint 150CLZ-1014
pins: +, -

## CPOL-US153CLV-0405
designator C?, comment POLARIZED CAPACITOR, American symbol
GateName_1: G$1; SymbolName_1: CPOL-US; DeviceName: 153CLV-0405; POPULARITY: 2; LibraryName: supercap; DeviceSetName: CPOL-US; Package: 153CLV-0405; SPICEPREFIX: C
footprint 153CLV-0405
pins: +, -

## CPOL-US153CLV-0505
designator C?, comment POLARIZED CAPACITOR, American symbol
GateName_1: G$1; SymbolName_1: CPOL-US; DeviceName: 153CLV-0505; POPULARITY: 0; LibraryName: supercap; DeviceSetName: CPOL-US; Package: 153CLV-0505; SPICEPREFIX: C
footprint 153CLV-0505
pins: +, -

## CPOL-US153CLV-0605
designator C?, comment POLARIZED CAPACITOR, American symbol
GateName_1: G$1; SymbolName_1: CPOL-US; DeviceName: 153CLV-0605; POPULARITY: 8; LibraryName: supercap; DeviceSetName: CPOL-US; Package: 153CLV-0605; SPICEPREFIX: C
footprint 153CLV-0605
pins: +, -

## CPOL-US153CLV-0807
designator C?, comment POLARIZED CAPACITOR, American symbol
GateName_1: G$1; SymbolName_1: CPOL-US; DeviceName: 153CLV-0807; POPULARITY: 0; LibraryName: supercap; DeviceSetName: CPOL-US; Package: 153CLV-0807; SPICEPREFIX: C
footprint 153CLV-0807
pins: +, -

## CPOL-US153CLV-0810
designator C?, comment POLARIZED CAPACITOR, American symbol
GateName_1: G$1; SymbolName_1: CPOL-US; DeviceName: 153CLV-0810; POPULARITY: 3; LibraryName: supercap; DeviceSetName: CPOL-US; Package: 153CLV-0810; SPICEPREFIX: C
footprint 153CLV-0810
pins: +, -

## CPOL-US153CLV-1010
designator C?, comment POLARIZED CAPACITOR, American symbol
GateName_1: G$1; SymbolName_1: CPOL-US; DeviceName: 153CLV-1010; POPULARITY: 2; LibraryName: supercap; DeviceSetName: CPOL-US; Package: 153CLV-1010; SPICEPREFIX: C
footprint 153CLV-1010
pins: +, -

## CPOL-US153CLV-1012
designator C?, comment POLARIZED CAPACITOR, American symbol
GateName_1: G$1; SymbolName_1: CPOL-US; DeviceName: 153CLV-1012; POPULARITY: 0; LibraryName: supercap; DeviceSetName: CPOL-US; Package: 153CLV-1012; SPICEPREFIX: C
footprint 153CLV-1012
pins: +, -

## CPOL-US153CLV-1014
designator C?, comment POLARIZED CAPACITOR, American symbol
GateName_1: G$1; SymbolName_1: CPOL-US; DeviceName: 153CLV-1014; POPULARITY: 0; LibraryName: supercap; DeviceSetName: CPOL-US; Package: 153CLV-1014; SPICEPREFIX: C
footprint 153CLV-1014
pins: +, -

## CPOL-US175TMP-0808
designator C?, comment POLARIZED CAPACITOR, American symbol
GateName_1: G$1; SymbolName_1: CPOL-US; DeviceName: 175TMP-0808; POPULARITY: 0; LibraryName: supercap; DeviceSetName: CPOL-US; Package: 175TMP-0808; SPICEPREFIX: C
footprint 175TMP-0808
pins: +, -

## CPOL-US175TMP-0810
designator C?, comment POLARIZED CAPACITOR, American symbol
GateName_1: G$1; SymbolName_1: CPOL-US; DeviceName: 175TMP-0810; POPULARITY: 0; LibraryName: supercap; DeviceSetName: CPOL-US; Package: 175TMP-0810; SPICEPREFIX: C
footprint 175TMP-0810
pins: +, -

## CPOL-USA
designator C?, comment POLARIZED CAPACITOR, American symbol
GateName_1: G$1; SymbolName_1: CPOL-US; DeviceName: A; POPULARITY: 1; LibraryName: supercap; DeviceSetName: CPOL-US; Package: PANASONIC_A; SPICEPREFIX: C
footprint PANASONIC_A
pins: +, -

## CPOL-USA/3216-18R
designator C?, comment POLARIZED CAPACITOR, American symbol
GateName_1: G$1; SymbolName_1: CPOL-US; DeviceName: A/3216-18R; POPULARITY: 2; LibraryName: supercap; DeviceSetName: CPOL-US; Package: A/3216-18R; SPICEPREFIX: C
footprint A/3216-18R
pins: +, -

## CPOL-USA/3216-18W
designator C?, comment POLARIZED CAPACITOR, American symbol
GateName_1: G$1; SymbolName_1: CPOL-US; DeviceName: A/3216-18W; POPULARITY: 1; LibraryName: supercap; DeviceSetName: CPOL-US; Package: A/3216-18W; SPICEPREFIX: C
footprint A/3216-18W
pins: +, -